# EAGLE library part USBLC6-2P6 (library USBLC6-2P6)
ESD Suppressors / TVS Diodes High Speed Interface Protection Low Cap Source: Datasheet <https://datasheet.lcsc.com/szlcsc/STMicroelectronics-USBLC6-2P6_C15999.pdf>
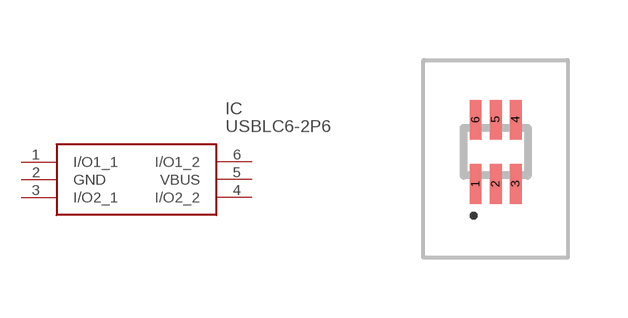
[diagram p0: symbol with the pads of USBLC62P6; footprint USBLC62P6]

Designator prefix IC

## USBLC6-2P6 (Description: ESD Suppressors / TVS Diodes High Speed Interface Protection Low Cap; Height: 0.6mm; Manufacturer_Name: STMicroelectronics; Manufacturer_Part_Number: USBLC6-2P6; Mouser_Part_Number: 511-USBLC6-2P6; Mouser_Price-Stock: https://www.mouser.co.uk/ProductDetail/STMicroelectronics/USBLC6-2P6?qs=6ARB0lp6jlViGcbUSvj1Mw%3D%3D)  [USBLC62P6]
1  I/O1_1
2  GND
3  I/O2_1
4  I/O2_2
5  VBUS
6  I/O1_2

## Footprint USBLC62P6 (pad centres in mm)
USBLC6-2P6-3
smd 0.3 x 0.99: 1 -0.5,-0.805; 2 0,-0.805; 3 0.5,-0.805; 4 0.5,0.805; 5 0,0.805; 6 -0.5,0.805